# Altium schematic symbol library INMP401.SchLib: 1 symbol
Pins are listed as number, name and electrical type; pins without a type are passive.

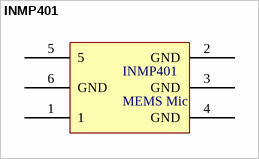
[diagram p0: symbol INMP401]

## INMP401
designator INMP401, comment MEMS Mic
footprint INMP401
pins: 1, 2 GND, 3 GND, 4 GND, 5, 6 GND